# Altium schematic symbol library BTS7960_Header_1x8.SchLib: 1 symbol
Pins are listed as number, name and electrical type; pins without a type are passive.

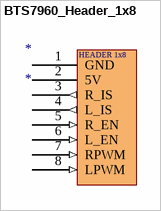
[diagram p0: symbol BTS7960_Header_1x8]

## BTS7960_Header_1x8
designator *
footprint PCBComponent_1
pins: 1 GND (power), 2 5V (power), 3 R_IS (out), 4 L_IS (out), 5 R_EN (in), 6 L_EN (in), 7 RPWM (in), 8 LPWM (in)
text: HEADER 1x8